# EAGLE library part FPC-CONNECTOR-24P-0.5 (library Connector )
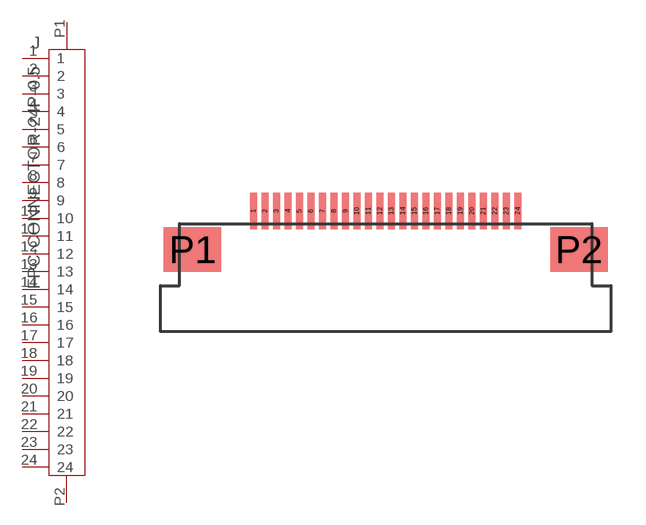
[diagram p38: symbol with the pads of 24P-0.5; footprint 24P-0.5]

Designator prefix J

## FPC-CONNECTOR-24P-0.5'ST-FPC-052024-B'  [24P-0.5]
1  1
2  2
3  3
4  4
5  5
6  6
7  7
8  8
9  9
10  10
11  11
12  12
13  13
14  14
15  15
16  16
17  17
18  18
19  19
20  20
21  21
22  22
23  23
24  24
P1  P1
P2  P2

## Footprint 24P-0.5 (pad centres in mm)
smd 0.3 x 1.6: 1 -5.75,0.05; 2 -5.25,0.05; 3 -4.75,0.05; 4 -4.25,0.05; 5 -3.75,0.05; 6 -3.25,0.05; 7 -2.75,0.05; 8 -2.25,0.05; 9 -1.75,0.05; 10 -1.25,0.05; 11 -0.75,0.05; 12 -0.25,0.05; 13 0.25,0.05; 14 0.75,0.05; 15 1.25,0.05; 16 1.75,0.05; 17 2.25,0.05; 18 2.75,0.05; 19 3.25,0.05; 20 3.75,0.05; 21 4.25,0.05; 22 4.75,0.05; 23 5.25,0.05; 24 5.75,0.05
smd 2.5 x 1.95: P1 -8.4,-1.625; P2 8.4,-1.625